# Altium schematic symbol library DPDT_Pushbutton.SchLib: 1 symbol
Pins are listed as number, name and electrical type; pins without a type are passive.

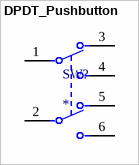
[diagram p0: symbol DPDT_Pushbutton]

## DPDT_Pushbutton
designator SW?
footprint DPDT_Pushbutton
pins: 1 1 C, 2 2 C, 3 1 NC, 4 1 NO, 5 2 NC, 6 2 NO